# Altium schematic symbol library DISPLAY.SchLib: 3 symbols
Pins are listed as number, name and electrical type; pins without a type are passive.

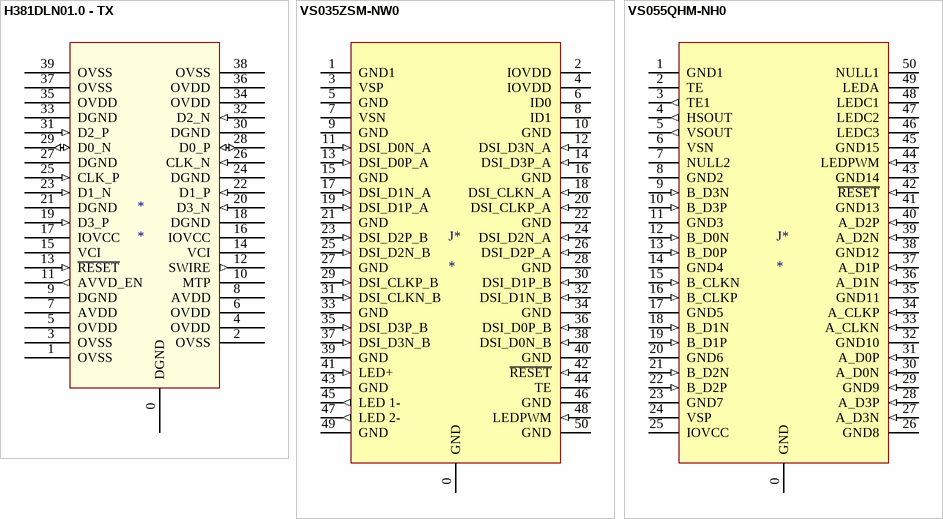
[diagram p0: symbols H381DLN01.0 - TX to VS055QHM-NH0]

## H381DLN01.0 - TX
designator *
footprint FH35C-39S-0.3SHW - TX (Hirose FPC Header - TX)
pins: 0 DGND, 1 OVSS (power), 2 OVSS (power), 3 OVSS (power), 4 OVDD (power), 5 OVDD (power), 6 OVDD (power), 7 AVDD (power), 8 AVDD (power), 9 DGND (power), 10 MTP (power), 11 AVVD_EN (out), 12 SWIRE (out), 13 ~{RESET} (in), 14 VCI (power), 15 VCI, 16 IOVCC (power), 17 IOVCC (power), 18 DGND (power), 19 D3_P (in), 20 D3_N (in), 21 DGND (power), 22 D1_P (in), 23 D1_N (in), 24 DGND (power), 25 CLK_P (in), 26 CLK_N (in), 27 DGND, 28 D0_P (io), 29 D0_N (io), 30 DGND (power), 31 D2_P (in), 32 D2_N (in), 33 DGND (power), 34 OVDD (power), 35 OVDD (power), 36 OVDD (power), 37 OVSS (power), 38 OVSS (power), 39 OVSS (power)

## VS035ZSM-NW0
designator J*
3.5inch 1440RGB*1600 TFT-LCD Module
footprint AXE550127 - Alternate (50p Display Connector (Socket))
pins: 0 GND (power), 1 GND1 (power), 2 IOVDD (power), 3 VSP, 4 IOVDD (power), 5 GND (power), 6 ID0 (power), 7 VSN (power), 8 ID1 (power), 9 GND (power), 10 GND (power), 11 DSI_D0N_A (in), 12 DSI_D3N_A (in), 13 DSI_D0P_A (in), 14 DSI_D3P_A (in), 15 GND (power), 16 GND (power), 17 DSI_D1N_A (in), 18 DSI_CLKN_A (in), 19 DSI_D1P_A (in), 20 DSI_CLKP_A (in), 21 GND (power), 22 GND (power), 23 DSI_D2P_B (in), 24 DSI_D2N_A (in), 25 DSI_D2N_B (in), 26 DSI_D2P_A (in), 27 GND (power), 28 GND (power), 29 DSI_CLKP_B (in), 30 DSI_D1P_B (in), 31 DSI_CLKN_B (in), 32 DSI_D1N_B (in), 33 GND (power), 34 GND (power), 35 DSI_D3P_B (in), 36 DSI_D0P_B (in), 37 DSI_D3N_B (in), 38 DSI_D0N_B (in), 39 GND (power), 40 GND (power), 41 LED+ (in), 42 ~{RESET} (in), 43 GND (power), 44 TE, 45 LED 1- (out), 46 GND (power), 47 LED 2- (out), 48 LEDPWM (in), 49 GND (power), 50 GND (power)

## VS055QHM-NH0
designator J*
5.5inch 1440RGB*2560 TFT-LCD Module
footprint AXE550127 (50p Display Connector (Socket))
pins: 0 GND (power), 1 GND1 (power), 2 TE, 3 TE1 (out), 4 HSOUT (out), 5 VSOUT (out), 6 VSN (power), 7 NULL2, 8 GND2, 9 B_D3N (in), 10 B_D3P (in), 11 GND3, 12 B_D0N (in), 13 B_D0P (in), 14 GND4, 15 B_CLKN (in), 16 B_CLKP (in), 17 GND5, 18 B_D1N (in), 19 B_D1P (in), 20 GND6, 21 B_D2N (in), 22 B_D2P (in), 23 GND7, 24 VSP (power), 25 IOVCC (power), 26 GND8, 27 A_D3N (in), 28 A_D3P (in), 29 GND9 (in), 30 A_D0N (in), 31 A_D0P (in), 32 GND10, 33 A_CLKN (in), 34 A_CLKP (in), 35 GND11, 36 A_D1N (in), 37 A_D1P (in), 38 GND12, 39 A_D2N (in), 40 A_D2P (in), 41 GND13, 42 ~{RESET} (in), 43 GND14, 44 LEDPWM (in), 45 GND15, 46 LEDC3 (power), 47 LEDC2, 48 LEDC1, 49 LEDA, 50 NULL1